# Altium integrated library PIC16LF1769-I_SO.IntLib: 1 symbol
Pins are listed as number, name and electrical type; pins without a type are passive.

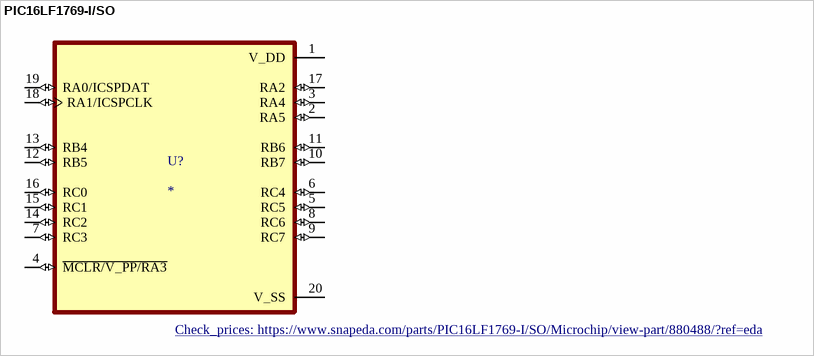
[diagram p0: symbol PIC16LF1769-I/SO]

## PIC16LF1769-I/SO
designator U?
PIC PICÂ® XLPâ„¢ 16F Microcontroller IC 8-Bit 32MHz 14KB (8K x 14) FLASH 20-SOIC; MF: Microchip; MP: PIC16LF1769-I/SO; Price: None; Purchase-URL: https://pricing.snapeda.com/search/part/PIC16LF1769-I/SO/?ref=eda; Value: *; Package: SOIC-20 Microchip; SnapEDA_Link: https://www.snapeda.com/parts/PIC16LF1769-I/SO/Microchip/view-part/880488/?ref=snap; Availability: Warning; Check_prices: https://www.snapeda.com/parts/PIC16LF1769-I/SO/Microchip/view-part/880488/?ref=eda
footprint SOIC127P1032X265-20N
pins: 1 V_DD (power), 2 RA5 (io), 3 RA4 (io), 4 ~{MCLR/V_PP/RA3} (io), 5 RC5 (io), 6 RC4 (io), 7 RC3 (io), 8 RC6 (io), 9 RC7 (io), 10 RB7 (io), 11 RB6 (io), 12 RB5 (io), 13 RB4 (io), 14 RC2 (io), 15 RC1 (io), 16 RC0 (io), 17 RA2 (io), 18 RA1/ICSPCLK (io), 19 RA0/ICSPDAT (io), 20 V_SS (power)